# Altium footprint library connector.PcbLib: 3 footprints
Each footprint in its own frame and in the unit in brackets; x right, y up, seen from the top. Pads: shape width x height; smd on the part's side, far side on the other; paste and mask are expansions set on the pad; w line width, h text height; cw(c..) or ccw(c..) is an arc to the next point about the centre after c.
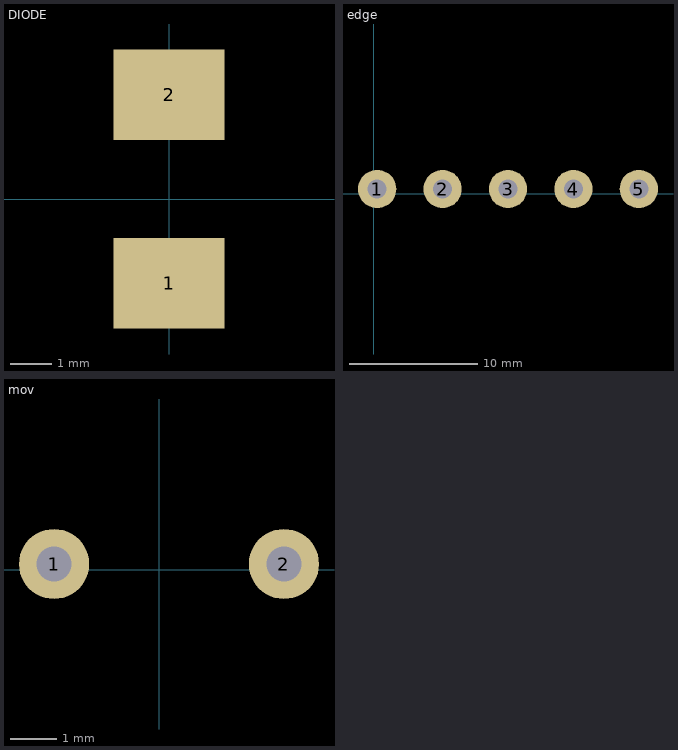
[diagram p0: the footprints below, top view; thin cyan lines are the x and y axes]

## DIODE [mm]
pads (2):
  rect 2.7x2.2 smd: 1(0,-2.032) 2(0,2.54)

## edge [mm]
pads (5):
  round 3 hole 1.5: 1(0.254,0.381) 2(5.374,0.381) 3(10.494,0.381) 4(15.614,0.381) 5(20.734,0.381)

## mov [mil]
pads (2):
  round 60 hole 30: 1(-90,5) 2(106.85,5)